# Altium schematic symbol library Sensor_Magnetic.SchLib: 72 symbols
Pins are listed as number, name and electrical type; pins without a type are passive.

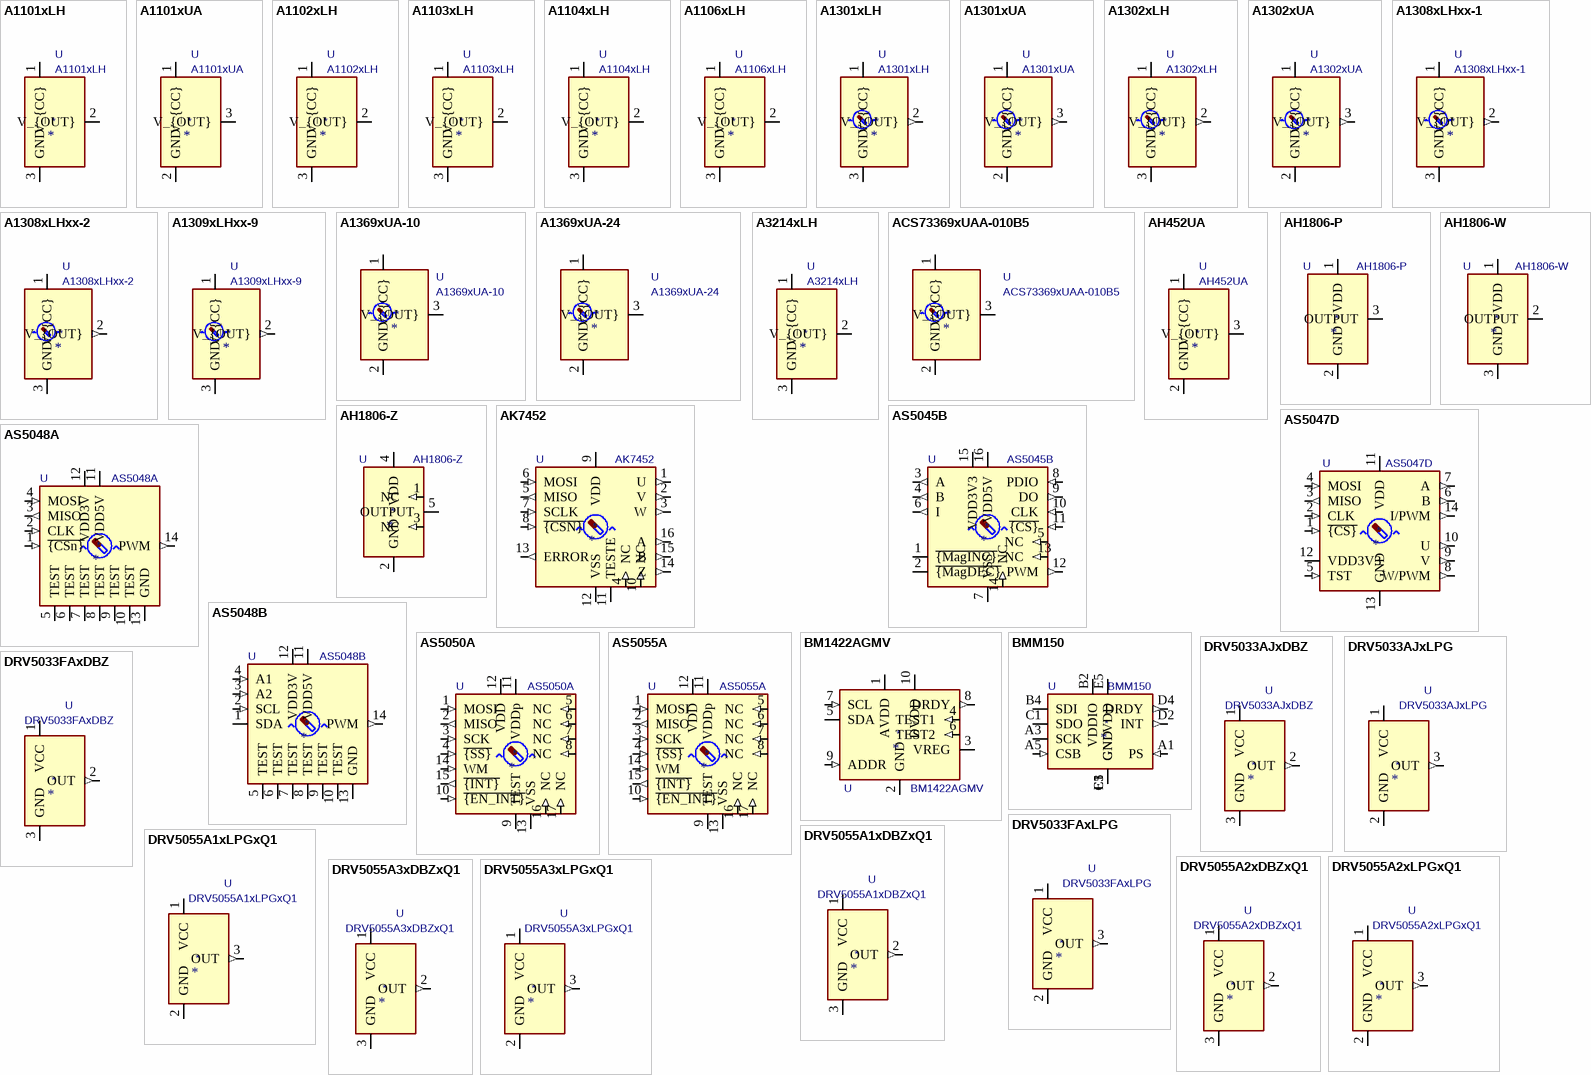
[diagram p0: symbols A1101xLH to DRV5055A3xLPGxQ1]

## A1101xLH
designator *  value A1101xLH  Reference: U
Hall effect switch, unipolar (south-polarity), Bop=100G, Brp=45G, 3.8-24V supply, SOT-23W; ki_keywords: A3141; ki_fp_filters: SOT?23*; Footprint: Package_TO_SOT_SMD:SOT-23W; Datasheet: https://www.allegromicro.com/-/media/files/datasheets/a110x-datasheet.ashx; Description_: Hall effect switch, unipolar (south-polarity), Bop=100G, Brp=45G, 3.8-24V supply, SOT-23W
pins: 1 V_{CC} (power), 2 V_{OUT} (oc), 3 GND (power)

## A1101xUA
designator *  value A1101xUA  Reference: U
Hall effect switch, unipolar (south-polarity), Bop=100G, Brp=45G, 3.8-24V supply, TO-92S (3-pin SIP); ki_keywords: A3141; ki_fp_filters: *TO?92S*; Footprint: Package_TO_SOT_THT:TO-92S; Datasheet: https://www.allegromicro.com/-/media/files/datasheets/a110x-datasheet.ashx; Description_: Hall effect switch, unipolar (south-polarity), Bop=100G, Brp=45G, 3.8-24V supply, TO-92S (3-pin SIP)
pins: 1 V_{CC} (power), 2 GND (power), 3 V_{OUT} (oc)

## A1102xLH
designator *  value A1102xLH  Reference: U
Hall effect switch, unipolar (south-polarity), Bop=180G, Brp=125G, 3.8-24V supply, SOT-23W; ki_keywords: A3142; ki_fp_filters: SOT?23*; Footprint: Package_TO_SOT_SMD:SOT-23W; Datasheet: https://www.allegromicro.com/-/media/files/datasheets/a110x-datasheet.ashx; Description_: Hall effect switch, unipolar (south-polarity), Bop=180G, Brp=125G, 3.8-24V supply, SOT-23W
pins: 1 V_{CC} (power), 2 V_{OUT} (oc), 3 GND (power)

## A1103xLH
designator *  value A1103xLH  Reference: U
Hall effect switch, unipolar (south-polarity), Bop=280G, Brp=225G, 3.8-24V supply, SOT-23W; ki_keywords: A3143; ki_fp_filters: SOT?23*; Footprint: Package_TO_SOT_SMD:SOT-23W; Datasheet: https://www.allegromicro.com/-/media/files/datasheets/a110x-datasheet.ashx; Description_: Hall effect switch, unipolar (south-polarity), Bop=280G, Brp=225G, 3.8-24V supply, SOT-23W
pins: 1 V_{CC} (power), 2 V_{OUT} (oc), 3 GND (power)

## A1104xLH
designator *  value A1104xLH  Reference: U
Hall effect switch, unipolar (south-polarity), Bop=70-350G, Brp=50-330G, 3.8-24V supply, SOT-23W; ki_keywords: A3144; ki_fp_filters: SOT?23*; Footprint: Package_TO_SOT_SMD:SOT-23W; Datasheet: https://www.allegromicro.com/-/media/files/datasheets/a110x-datasheet.ashx; Description_: Hall effect switch, unipolar (south-polarity), Bop=70-350G, Brp=50-330G, 3.8-24V supply, SOT-23W
pins: 1 V_{CC} (power), 2 V_{OUT} (oc), 3 GND (power)

## A1106xLH
designator *  value A1106xLH  Reference: U
Hall effect switch, unipolar (south-polarity), Bop=340G, Brp=240G, 3.8-24V supply, SOT-23W; ki_keywords: Allegro; ki_fp_filters: SOT?23*; Footprint: Package_TO_SOT_SMD:SOT-23W; Datasheet: https://www.allegromicro.com/-/media/files/datasheets/a110x-datasheet.ashx; Description_: Hall effect switch, unipolar (south-polarity), Bop=340G, Brp=240G, 3.8-24V supply, SOT-23W
pins: 1 V_{CC} (power), 2 V_{OUT} (oc), 3 GND (power)

## A1301xLH
designator *  value A1301xLH  Reference: U
Linear Hall Effect Sensor, 2.5 mV/G, 4.5-6.0V supply, SOT-23W; ki_keywords: ratiometric Obsolete; ki_fp_filters: SOT?23W*; Footprint: Package_TO_SOT_SMD:SOT-23W; Datasheet: http://www.allegromicro.com/~/media/Files/Datasheets/A1301-2-Datasheet.ashx; Description_: Linear Hall Effect Sensor, 2.5 mV/G, 4.5-6.0V supply, SOT-23W
pins: 1 V_{CC} (power), 2 V_{OUT} (out), 3 GND (power)

## A1301xUA
designator *  value A1301xUA  Reference: U
Linear Hall Effect Sensor, 2.5 mV/G, 4.5-6.0V supply, TO-92S (3-pin SIP); ki_keywords: ratiometric Obsolete; ki_fp_filters: *TO?92S*; Footprint: Package_TO_SOT_THT:TO-92S; Datasheet: http://www.allegromicro.com/~/media/Files/Datasheets/A1301-2-Datasheet.ashx; Description_: Linear Hall Effect Sensor, 2.5 mV/G, 4.5-6.0V supply, TO-92S (3-pin SIP)
pins: 1 V_{CC} (power), 2 GND (power), 3 V_{OUT} (out)

## A1302xLH
designator *  value A1302xLH  Reference: U
Linear Hall Effect Sensor, 1.3 mV/G, 4.5-6.0V supply, SOT-23W; ki_keywords: ratiometric Obsolete; ki_fp_filters: SOT?23W*; Footprint: Package_TO_SOT_SMD:SOT-23W; Datasheet: http://www.allegromicro.com/~/media/Files/Datasheets/A1301-2-Datasheet.ashx; Description_: Linear Hall Effect Sensor, 1.3 mV/G, 4.5-6.0V supply, SOT-23W
pins: 1 V_{CC} (power), 2 V_{OUT} (out), 3 GND (power)

## A1302xUA
designator *  value A1302xUA  Reference: U
Linear Hall Effect Sensor, 1.3 mV/G, 4.5-6.0V supply, TO-92S (3-pin SIP); ki_keywords: ratiometric Obsolete; ki_fp_filters: *TO?92S*; Footprint: Package_TO_SOT_THT:TO-92S; Datasheet: http://www.allegromicro.com/~/media/Files/Datasheets/A1301-2-Datasheet.ashx; Description_: Linear Hall Effect Sensor, 1.3 mV/G, 4.5-6.0V supply, TO-92S (3-pin SIP)
pins: 1 V_{CC} (power), 2 GND (power), 3 V_{OUT} (out)

## A1308xLHxx-1
designator *  value A1308xLHxx-1  Reference: U
Linear Hall Effect Sensor ICs with Analog Output, 1.3 mV/G, 4.5-5.5V supply, SOT-23W; ki_keywords: ratiometric A1302; ki_fp_filters: SOT?23W*; Footprint: Package_TO_SOT_SMD:SOT-23W; Datasheet: https://www.allegromicro.com/~/media/files/datasheets/a1308-9-datasheet.ashx; Description_: Linear Hall Effect Sensor ICs with Analog Output, 1.3 mV/G, 4.5-5.5V supply, SOT-23W
pins: 1 V_{CC} (power), 2 V_{OUT} (out), 3 GND (power)

## A1308xLHxx-2
designator *  value A1308xLHxx-2  Reference: U
Linear Hall Effect Sensor ICs with Analog Output, 2.5 mV/G, 4.5-5.5V supply, SOT-23W; ki_keywords: ratiometric A1301; ki_fp_filters: SOT?23W*; Footprint: Package_TO_SOT_SMD:SOT-23W; Datasheet: https://www.allegromicro.com/~/media/files/datasheets/a1308-9-datasheet.ashx; Description_: Linear Hall Effect Sensor ICs with Analog Output, 2.5 mV/G, 4.5-5.5V supply, SOT-23W
pins: 1 V_{CC} (power), 2 V_{OUT} (out), 3 GND (power)

## A1309xLHxx-9
designator *  value A1309xLHxx-9  Reference: U
Linear Hall Effect Sensor ICs with Analog Output, 9 mV/G, 4.5-5.5V supply, SOT-23W; ki_keywords: ratiometric; ki_fp_filters: SOT?23W*; Footprint: Package_TO_SOT_SMD:SOT-23W; Datasheet: https://www.allegromicro.com/~/media/files/datasheets/a1308-9-datasheet.ashx; Description_: Linear Hall Effect Sensor ICs with Analog Output, 9 mV/G, 4.5-5.5V supply, SOT-23W
pins: 1 V_{CC} (power), 2 V_{OUT} (out), 3 GND (power)

## A1369xUA-10
designator *  value A1369xUA-10  Reference: U
Customer-Programmable Linear Hall Effect Sensor, -8.5 to -12.5mV/G, TO-92S (3-pin SIP); ki_keywords: current-sensing monitor ratiometric Obsolete; ki_fp_filters: *TO?92S*; Footprint: Package_TO_SOT_THT:TO-92S; Datasheet: http://www.allegromicro.com/~/media/Files/Datasheets/A1369-Datasheet.ashx?la=en; Description_: Customer-Programmable Linear Hall Effect Sensor, -8.5 to -12.5mV/G, TO-92S (3-pin SIP)
pins: 1 V_{CC} (power), 2 GND (power), 3 V_{OUT} (io)

## A1369xUA-24
designator *  value A1369xUA-24  Reference: U
Customer-Programmable Linear Hall Effect Sensor, -22 to -26mV/G, TO-92S (3-pin SIP); ki_keywords: current-sensing monitor ratiometric Obsolete; ki_fp_filters: *TO?92S*; Footprint: Package_TO_SOT_THT:TO-92S; Datasheet: http://www.allegromicro.com/~/media/Files/Datasheets/A1369-Datasheet.ashx?la=en; Description_: Customer-Programmable Linear Hall Effect Sensor, -22 to -26mV/G, TO-92S (3-pin SIP)
pins: 1 V_{CC} (power), 2 GND (power), 3 V_{OUT} (io)

## A3214xLH
designator *  value A3214xLH  Reference: U
Hall Effect Switch, bipolar, Bop = -48 or +42G, Brp = -38 or 32G, 2.4-5.5V supply, SOT-23W; ki_keywords: Allegro; ki_fp_filters: SOT?23W*; Footprint: Package_TO_SOT_SMD:SOT-23W; Datasheet: http://www.allegromicro.com/~/media/Files/Datasheets/A3213-4-Datasheet.ashx; Description_: Hall Effect Switch, bipolar, Bop = -48 or +42G, Brp = -38 or 32G, 2.4-5.5V supply, SOT-23W
pins: 1 V_{CC} (power), 2 V_{OUT} (oc), 3 GND (power)

## ACS73369xUAA-010B5
designator *  value ACS73369xUAA-010B5  Reference: U
Customer-Programmable Linear Hall Effect Sensor, +9 to +13.5mV/G, TO-92S (3-pin SIP); ki_keywords: A1369 current-sensing monitor ratiometric; ki_fp_filters: *TO?92S*; Footprint: Package_TO_SOT_THT:TO-92S; Datasheet: http://www.allegromicro.com/~/media/Files/Datasheets/ACS73369-Datasheet.ashx?la=en; Description_: Customer-Programmable Linear Hall Effect Sensor, +9 to +13.5mV/G, TO-92S (3-pin SIP)
pins: 1 V_{CC} (power), 2 GND (power), 3 V_{OUT} (io)

## AH452UA
designator *  value AH452UA  Reference: U
High sensitivity omnipolar Hall effect switch, Bop=±50G, Brp=±30G, TO-92S (3-pin SIP); ki_keywords: Alfa-Electronics; ki_fp_filters: *TO?92S*; Footprint: Package_TO_SOT_THT:TO-92S; Datasheet: https://datasheet4u.com/pdf-down/A/H/4/AH452-AlfaElectronics.pdf; Description_: High sensitivity omnipolar Hall effect switch, Bop=±50G, Brp=±30G, TO-92S (3-pin SIP)
pins: 1 V_{CC} (power), 2 GND (power), 3 V_{OUT} (oc)

## AH1806-P
designator *  value AH1806-P  Reference: U
High Sensitivity Micropower Omnipolar Hall-Effect Switch, SIP-3; ki_keywords: hall switch; ki_fp_filters: Diodes*SIP*4.1x1.5mm*P1.27mm* Diodes*SIP*4.1x1.5mm*P2.65mm*; Datasheet: https://www.diodes.com/assets/Datasheets/AH1806.pdf; Description_: High Sensitivity Micropower Omnipolar Hall-Effect Switch, SIP-3
pins: 1 VDD (power), 2 GND (power), 3 OUTPUT (oc)

## AH1806-W
designator *  value AH1806-W  Reference: U
High Sensitivity Micropower Omnipolar Hall-Effect Switch, SC-59; ki_keywords: hall switch; ki_fp_filters: SC?59*; Footprint: Package_TO_SOT_SMD:SC-59; Datasheet: https://www.diodes.com/assets/Datasheets/AH1806.pdf; Description_: High Sensitivity Micropower Omnipolar Hall-Effect Switch, SC-59
pins: 1 VDD (power), 2 OUTPUT (oc), 3 GND (power)

## AH1806-Z
designator *  value AH1806-Z  Reference: U
High Sensitivity Micropower Omnipolar Hall-Effect Switch, SOT-553; ki_keywords: hall switch; ki_fp_filters: SOT*553*; Footprint: Package_TO_SOT_SMD:SOT-553; Datasheet: https://www.diodes.com/assets/Datasheets/AH1806.pdf; Description_: High Sensitivity Micropower Omnipolar Hall-Effect Switch, SOT-553
pins: 1 NC (in), 2 GND (power), 3 NC (in), 4 VDD (power), 5 OUTPUT (oc)

## AK7452
designator *  value AK7452  Reference: U
Magnetic rotary angle sensor, 14-bit, SPI interface, ABZ, UVW, TSSOP-16; ki_keywords: sensor magnetic hall position rotation spi; ki_fp_filters: TSSOP*4.4x5mm*P0.65mm*; Footprint: Package_SO:TSSOP-16_4.4x5mm_P0.65mm; Datasheet: https://www.akm.com/akm/en/file/datasheet/AK7452.pdf; Description_: Magnetic rotary angle sensor, 14-bit, SPI interface, ABZ, UVW, TSSOP-16
pins: 1 U (out), 2 V (out), 3 W (out), 4 NC (in), 5 MISO (out), 6 MOSI (in), 7 SCLK (in), 8 ~{{CSN}} (in), 9 VDD (power), 10 NC (in), 11 TESTE, 12 VSS (power), 13 ERROR (out), 14 Z (out), 15 B (out), 16 A (out)

## AS5045B
designator *  value AS5045B  Reference: U
Magnetic Position Sensor, 12-bit, PWM Output, ABI Output, SPI Interface, SSOP-16; ki_keywords: Magnetic Hall Encoder; ki_fp_filters: SSOP*5.3x6.2mm*P0.65mm*; Footprint: Package_SO:SSOP-16_5.3x6.2mm_P0.65mm; Datasheet: https://ams.com/documents/20143/36005/AS5045B_DS000397_2-00.pdf; Description_: Magnetic Position Sensor, 12-bit, PWM Output, ABI Output, SPI Interface, SSOP-16
pins: 1 ~{{MagINC}} (oc), 2 ~{{MagDEC}} (oc), 3 A (out), 4 B (out), 5 NC (in), 6 I (out), 7 VSS (power), 8 PDIO (in), 9 DO (out), 10 CLK (in), 11 ~{{CS}} (in), 12 PWM (out), 13 NC (in), 14 NC (in), 15 VDD3V3 (power), 16 VDD5V (power)

## AS5047D
designator *  value AS5047D  Reference: U
On-Axis Magnetic Position Sensor, 14-bit, PWM Output, ABI Output, UVW Output, SPI Interface, TSSOP-14; ki_keywords: Magnetic Hall Sensor; ki_fp_filters: TSSOP*4.4x5mm*P0.65mm*; Footprint: Package_SO:TSSOP-14_4.4x5mm_P0.65mm; Datasheet: https://ams.com/documents/20143/36005/AS5047D_DS000394_2-00.pdf; Description_: On-Axis Magnetic Position Sensor, 14-bit, PWM Output, ABI Output, UVW Output, SPI Interface, TSSOP-14
pins: 1 ~{{CS}} (in), 2 CLK (in), 3 MISO (out), 4 MOSI (in), 5 TST (in), 6 B (out), 7 A (out), 8 W/PWM (out), 9 V (out), 10 U (out), 11 VDD (power), 12 VDD3V3 (power), 13 GND (power), 14 I/PWM (out)

## AS5048A
designator *  value AS5048A  Reference: U
Magnetic position sensor, 14-bit, PWM output, SPI Interface, TSSOP-14; ki_keywords: sensor magnetic hall position rotation spi; ki_fp_filters: TSSOP*4.4x5mm*P0.65mm*; Footprint: Package_SO:TSSOP-14_4.4x5mm_P0.65mm; Datasheet: https://ams.com/documents/20143/36005/AS5048_DS000298_4-00.pdf; Description_: Magnetic position sensor, 14-bit, PWM output, SPI Interface, TSSOP-14
pins: 1 ~{{CSn}} (in), 2 CLK (in), 3 MISO (out), 4 MOSI (in), 5 TEST, 6 TEST, 7 TEST, 8 TEST, 9 TEST, 10 TEST, 11 VDD5V (power), 12 VDD3V (power), 13 GND (power), 14 PWM (out)

## AS5048B
designator *  value AS5048B  Reference: U
Magnetic position sensor, 14-bit, PWM output, I2C Interface, TSSOP-14; ki_keywords: sensor magnetic hall position rotation i2c; ki_fp_filters: TSSOP*4.4x5mm*P0.65mm*; Footprint: Package_SO:TSSOP-14_4.4x5mm_P0.65mm; Datasheet: https://ams.com/documents/20143/36005/AS5048_DS000298_4-00.pdf; Description_: Magnetic position sensor, 14-bit, PWM output, I2C Interface, TSSOP-14
pins: 1 SDA (io), 2 SCL (in), 3 A2 (in), 4 A1 (in), 5 TEST, 6 TEST, 7 TEST, 8 TEST, 9 TEST, 10 TEST, 11 VDD5V (power), 12 VDD3V (power), 13 GND (power), 14 PWM (out)

## AS5050A
designator *  value AS5050A  Reference: U
Magnetic position sensor, 10-bit, SPI interface, QFN-16; ki_keywords: sensor magnetic hall position rotation spi; ki_fp_filters: QFN*1EP*4x4mm*P0.65mm*PullBack*; Footprint: Package_DFN_QFN:QFN-16-1EP_4x4mm_P0.65mm_EP2.7x2.7mm_PullBack; Datasheet: https://ams.com/documents/20143/36005/AS5055A_DS000304_2-00.pdf; Description_: Magnetic position sensor, 10-bit, SPI interface, QFN-16
pins: 1 MOSI (in), 2 MISO (out), 3 SCK (in), 4 ~{{SS}} (in), 5 NC (in), 6 NC (in), 7 NC (in), 8 NC (in), 9 TEST, 10 ~{{EN_INT}} (in), 11 VDDp (power), 12 VDD (power), 13 VSS (power), 14 WM (in), 15 ~{{INT}} (out), 16 NC (in), 17 NC (in)

## AS5055A
designator *  value AS5055A  Reference: U
Magnetic position sensor, 12-bit, SPI interface, QFN-16; ki_keywords: sensor magnetic hall position rotation spi; ki_fp_filters: QFN*1EP*4x4mm*P0.65mm*PullBack*; Footprint: Package_DFN_QFN:QFN-16-1EP_4x4mm_P0.65mm_EP2.7x2.7mm_PullBack; Datasheet: https://ams.com/documents/20143/36005/AS5055A_DS000304_2-00.pdf; Description_: Magnetic position sensor, 12-bit, SPI interface, QFN-16
pins: 1 MOSI (in), 2 MISO (out), 3 SCK (in), 4 ~{{SS}} (in), 5 NC (in), 6 NC (in), 7 NC (in), 8 NC (in), 9 TEST, 10 ~{{EN_INT}} (in), 11 VDDp (power), 12 VDD (power), 13 VSS (power), 14 WM (in), 15 ~{{INT}} (out), 16 NC (in), 17 NC (in)

## BM1422AGMV
designator *  value BM1422AGMV  Reference: U
Low power 3axis magnetic sensor, I2C interface, MLGA010V020A; ki_keywords: 3D 3axis magnetometer magnetic sensor I2C; ki_fp_filters: *MLGA010V020A*; Footprint: Package_LGA:Rohm_MLGA010V020A_LGA-10_2x2mm_P0.45mm_LayoutBorder2x3y; Datasheet: https://fscdn.rohm.com/en/products/databook/datasheet/ic/sensor/geomagnetic/bm1422agmv-e.pdf; Description_: Low power 3axis magnetic sensor, I2C interface, MLGA010V020A
pins: 1 AVDD (power), 2 GND (power), 3 VREG, 4 TEST1 (in), 5 SDA (io), 6 TEST2 (in), 7 SCL (in), 8 DRDY (out), 9 ADDR (in), 10 DVDD (power)

## BMM150
designator *  value BMM150  Reference: U
Geomagnetic Sensor, WLCSP-12; ki_keywords: BOSH Geomagnetic Sensor; ki_fp_filters: WLCSP*1.56x1.56mm*P0.4mm*; Footprint: Package_CSP:WLCSP-12_1.56x1.56mm_P0.4mm; Datasheet: https://www.mouser.com/datasheet/2/783/BST-BMM150-DS001-01-786480.pdf; Description_: Geomagnetic Sensor, WLCSP-12
pins: A1 PS (in), A3 SCK (io), A5 CSB (in), B2 VDDIO (power), B4 SDI (io), C1 SDO (io), C5 GND (power), D2 INT (out), D4 DRDY (out), E1 GND, E3 GND, E5 VDD (power)

## DRV5033AJxDBZ
designator *  value DRV5033AJxDBZ  Reference: U
±6.9 / ±3.5 mT, 20-kHz, 2-38V, SOT-23; ki_keywords: Digital Omnipolar Switch Hall Effect Sensor; ki_fp_filters: SOT?23*; Footprint: Package_TO_SOT_SMD:SOT-23; Datasheet: https://www.ti.com/lit/ds/symlink/drv5033.pdf; Description_: ±6.9 / ±3.5 mT, 20-kHz, 2-38V, SOT-23
pins: 1 VCC (power), 2 OUT (out), 3 GND (power)

## DRV5033AJxLPG
designator *  value DRV5033AJxLPG  Reference: U
±6.9 / ±3.5 mT, 20-kHz, 2-38V, TO-92; ki_keywords: Digital Omnipolar Switch Hall Effect Sensor; ki_fp_filters: TO?92*; Footprint: Package_TO_SOT_THT:TO-92_Inline; Datasheet: https://www.ti.com/lit/ds/symlink/drv5033.pdf; Description_: ±6.9 / ±3.5 mT, 20-kHz, 2-38V, TO-92
pins: 1 VCC (power), 2 GND (power), 3 OUT (out)

## DRV5033FAxDBZ
designator *  value DRV5033FAxDBZ  Reference: U
±3.5 / ±2 mT, 20-kHz, 2-38V, SOT-23; ki_keywords: Digital Omnipolar Switch Hall Effect Sensor; ki_fp_filters: SOT?23*; Footprint: Package_TO_SOT_SMD:SOT-23; Datasheet: https://www.ti.com/lit/ds/symlink/drv5033.pdf; Description_: ±3.5 / ±2 mT, 20-kHz, 2-38V, SOT-23
pins: 1 VCC (power), 2 OUT (out), 3 GND (power)

## DRV5033FAxLPG
designator *  value DRV5033FAxLPG  Reference: U
±3.5 / ±2 mT, 20-kHz, 2-38V, TO-92; ki_keywords: Digital Omnipolar Switch Hall Effect Sensor; ki_fp_filters: TO?92*; Footprint: Package_TO_SOT_THT:TO-92_Inline; Datasheet: https://www.ti.com/lit/ds/symlink/drv5033.pdf; Description_: ±3.5 / ±2 mT, 20-kHz, 2-38V, TO-92
pins: 1 VCC (power), 2 GND (power), 3 OUT (out)

## DRV5055A1xDBZxQ1
designator *  value DRV5055A1xDBZxQ1  Reference: U
100 mV/mT,±21-mT, 20-kHz, 3.3/5V, SOT-23; ki_keywords: Automotive Ratiometric Linear Hall Effect Sensor AEC-Q100; ki_fp_filters: SOT?23*; Footprint: Package_TO_SOT_SMD:SOT-23; Datasheet: https://www.ti.com/lit/ds/symlink/drv5055-q1.pdf; Description_: 100 mV/mT,±21-mT, 20-kHz, 3.3/5V, SOT-23
pins: 1 VCC (power), 2 OUT (out), 3 GND (power)

## DRV5055A1xLPGxQ1
designator *  value DRV5055A1xLPGxQ1  Reference: U
100 mV/mT,±21-mT, 20-kHz, 3.3/5V, TO-92; ki_keywords: Automotive Ratiometric Linear Hall Effect Sensor AEC-Q100; ki_fp_filters: TO?92*; Footprint: Package_TO_SOT_THT:TO-92_Inline; Datasheet: https://www.ti.com/lit/ds/symlink/drv5055-q1.pdf; Description_: 100 mV/mT,±21-mT, 20-kHz, 3.3/5V, TO-92
pins: 1 VCC (power), 2 GND (power), 3 OUT (out)

## DRV5055A2xDBZxQ1
designator *  value DRV5055A2xDBZxQ1  Reference: U
50 mV/mT,±42-mT, 20-kHz, 3.3/5V, SOT-23; ki_keywords: Automotive Ratiometric Linear Hall Effect Sensor AEC-Q100; ki_fp_filters: SOT?23*; Footprint: Package_TO_SOT_SMD:SOT-23; Datasheet: https://www.ti.com/lit/ds/symlink/drv5055-q1.pdf; Description_: 50 mV/mT,±42-mT, 20-kHz, 3.3/5V, SOT-23
pins: 1 VCC (power), 2 OUT (out), 3 GND (power)

## DRV5055A2xLPGxQ1
designator *  value DRV5055A2xLPGxQ1  Reference: U
50 mV/mT,±42-mT, 20-kHz, 3.3/5V, TO-92; ki_keywords: Automotive Ratiometric Linear Hall Effect Sensor AEC-Q100; ki_fp_filters: TO?92*; Footprint: Package_TO_SOT_THT:TO-92_Inline; Datasheet: https://www.ti.com/lit/ds/symlink/drv5055-q1.pdf; Description_: 50 mV/mT,±42-mT, 20-kHz, 3.3/5V, TO-92
pins: 1 VCC (power), 2 GND (power), 3 OUT (out)

## DRV5055A3xDBZxQ1
designator *  value DRV5055A3xDBZxQ1  Reference: U
25 mV/mT,±85-mT, 20-kHz, 3.3/5V, SOT-23; ki_keywords: Automotive Ratiometric Linear Hall Effect Sensor AEC-Q100; ki_fp_filters: SOT?23*; Footprint: Package_TO_SOT_SMD:SOT-23; Datasheet: https://www.ti.com/lit/ds/symlink/drv5055-q1.pdf; Description_: 25 mV/mT,±85-mT, 20-kHz, 3.3/5V, SOT-23
pins: 1 VCC (power), 2 OUT (out), 3 GND (power)

## DRV5055A3xLPGxQ1
designator *  value DRV5055A3xLPGxQ1  Reference: U
25 mV/mT,±85-mT, 20-kHz, 3.3/5V, TO-92; ki_keywords: Automotive Ratiometric Linear Hall Effect Sensor AEC-Q100; ki_fp_filters: TO?92*; Footprint: Package_TO_SOT_THT:TO-92_Inline; Datasheet: https://www.ti.com/lit/ds/symlink/drv5055-q1.pdf; Description_: 25 mV/mT,±85-mT, 20-kHz, 3.3/5V, TO-92
pins: 1 VCC (power), 2 GND (power), 3 OUT (out)

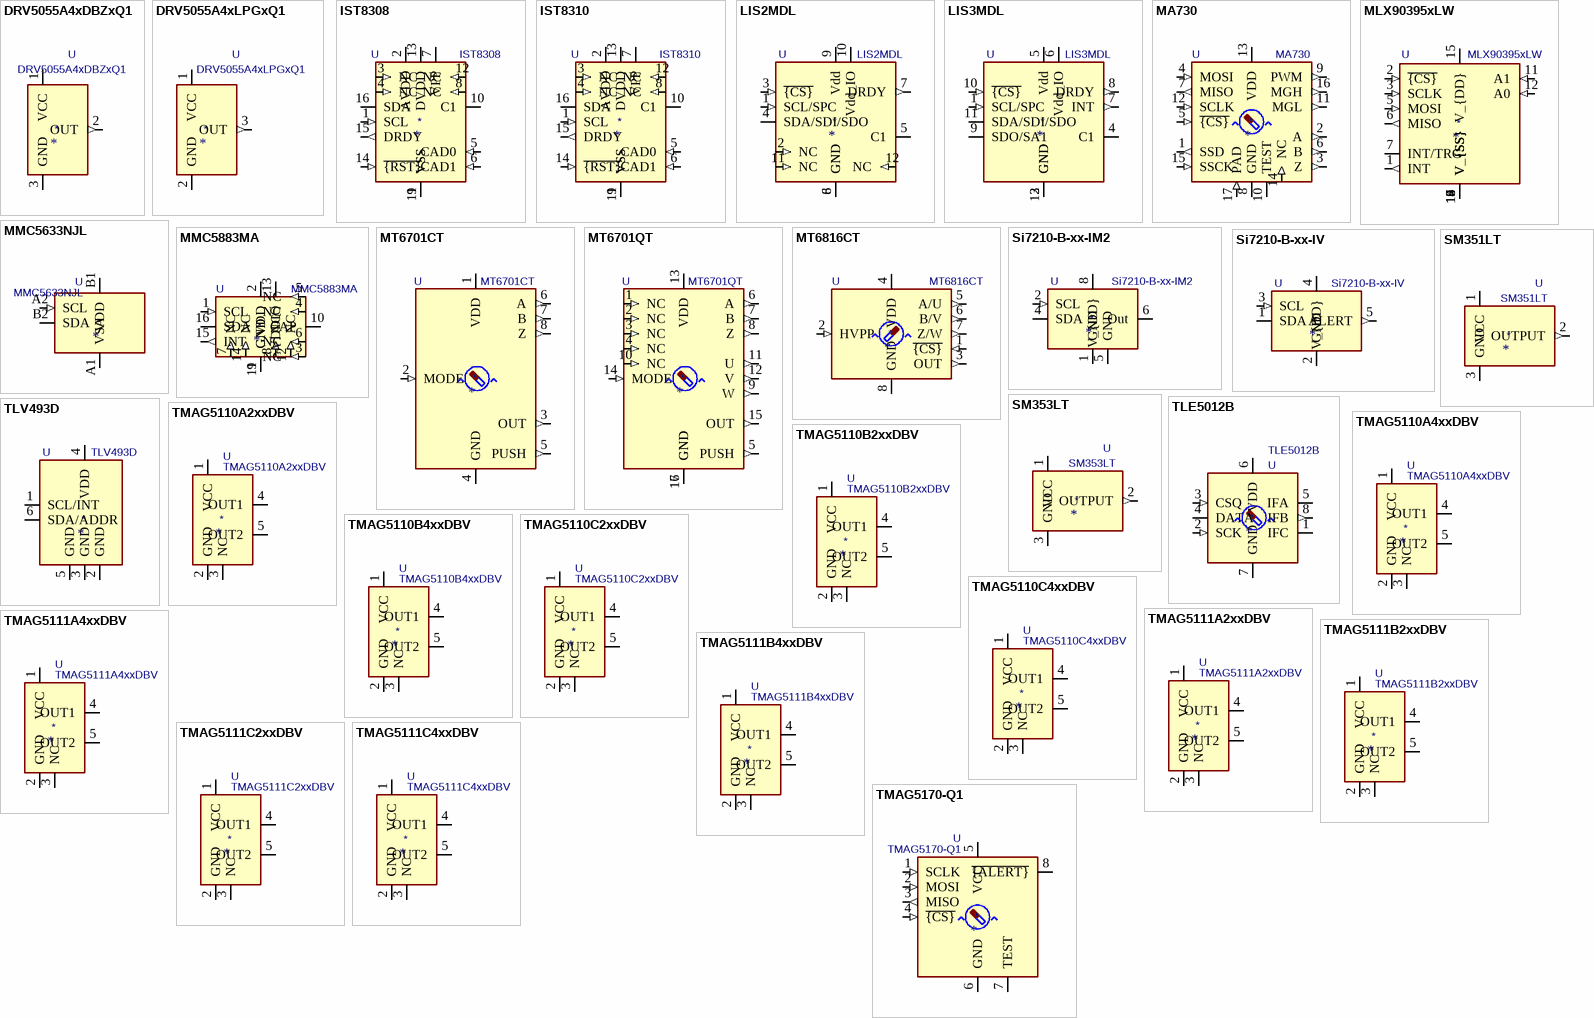
[diagram p1: symbols DRV5055A4xDBZxQ1 to TMAG5170-Q1]

## DRV5055A4xDBZxQ1
designator *  value DRV5055A4xDBZxQ1  Reference: U
12.5 mV/mT,±169-mT, 20-kHz, 3.3/5V, SOT-23; ki_keywords: Automotive Ratiometric Linear Hall Effect Sensor AEC-Q100; ki_fp_filters: SOT?23*; Footprint: Package_TO_SOT_SMD:SOT-23; Datasheet: https://www.ti.com/lit/ds/symlink/drv5055-q1.pdf; Description_: 12.5 mV/mT,±169-mT, 20-kHz, 3.3/5V, SOT-23
pins: 1 VCC (power), 2 OUT (out), 3 GND (power)

## DRV5055A4xLPGxQ1
designator *  value DRV5055A4xLPGxQ1  Reference: U
12.5mV/mT,±169-mT, 20-kHz, 3.3/5V, TO-92; ki_keywords: Automotive Ratiometric Linear Hall Effect Sensor AEC-Q100; ki_fp_filters: TO?92*; Footprint: Package_TO_SOT_THT:TO-92_Inline; Datasheet: https://www.ti.com/lit/ds/symlink/drv5055-q1.pdf; Description_: 12.5mV/mT,±169-mT, 20-kHz, 3.3/5V, TO-92
pins: 1 VCC (power), 2 GND (power), 3 OUT (out)

## IST8308
designator *  value IST8308  Reference: U
3D Magnetometer, High Sensitivity, I2C Interface, LGA-16; ki_keywords: magnet field sensor compass; ki_fp_filters: LGA*3x3mm*P0.5mm*; Footprint: Package_LGA:LGA-16_3x3mm_P0.5mm; Datasheet: http://www.isentek.com/en/dlf.php?file=../ISENTEK/(201703-20)IST8308%20Datasheet%20v1.0_brief.pdf; Description_: 3D Magnetometer, High Sensitivity, I2C Interface, LGA-16
pins: 1 SCL (in), 2 AVDD (power), 3 NC (in), 4 NC (in), 5 CAD0 (in), 6 CAD1 (in), 7 VPP, 8 NC (in), 9 VSS (power), 10 C1, 11 VSS, 12 NC (in), 13 DVDD (power), 14 ~{{RST}} (in), 15 DRDY (out), 16 SDA (io)

## IST8310
designator *  value IST8310  Reference: U
3D Magnetometer, I2C Interface, LGA-16; ki_keywords: magnet field sensor compass; ki_fp_filters: LGA*3x3mm*P0.5mm*; Footprint: Package_LGA:LGA-16_3x3mm_P0.5mm; Datasheet: http://www.isentek.com/en/dlf.php?file=../ISENTEK/(201703-09)IST8310%20Datasheet%20v1.2_brief-105.09.20.pdf; Description_: 3D Magnetometer, I2C Interface, LGA-16
pins: 1 SCL (in), 2 AVDD (power), 3 NC (in), 4 NC (in), 5 CAD0 (in), 6 CAD1 (in), 7 VPP, 8 NC (in), 9 VSS (power), 10 C1, 11 VSS, 12 NC (in), 13 DVDD (power), 14 ~{{RST}} (in), 15 DRDY (out), 16 SDA (io)

## LIS2MDL
designator *  value LIS2MDL  Reference: U
Ultra-low-power, 3-axis digital output magnetometer, LGA-12; ki_keywords: digital magnetometer; ki_fp_filters: LGA*2x2mm*P0.5mm*; Footprint: Package_LGA:LGA-12_2x2mm_P0.5mm; Datasheet: https://www.st.com/resource/en/datasheet/lis2mdl.pdf; Description_: Ultra-low-power, 3-axis digital output magnetometer, LGA-12
pins: 1 SCL/SPC (in), 2 NC (in), 3 ~{{CS}} (in), 4 SDA/SDI/SDO (io), 5 C1 (power), 6 GND (power), 7 DRDY (out), 8 GND, 9 Vdd (power), 10 Vdd_IO (power), 11 NC (in), 12 NC (in)

## LIS3MDL
designator *  value LIS3MDL  Reference: U
Ultra-low-power, 3-axis digital output magnetometer, LGA-12; ki_keywords: digital magnetometer; ki_fp_filters: LGA*2x2mm*P0.5mm*; Footprint: Package_LGA:LGA-12_2x2mm_P0.5mm; Datasheet: https://www.st.com/resource/en/datasheet/lis3mdl.pdf; Description_: Ultra-low-power, 3-axis digital output magnetometer, LGA-12
pins: 1 SCL/SPC (in), 2 GND, 3 GND (power), 4 C1 (power), 5 Vdd (power), 6 Vdd_IO (power), 7 INT (out), 8 DRDY (out), 9 SDO/SA1 (io), 10 ~{{CS}} (in), 11 SDA/SDI/SDO (io), 12 GND

## MA730
designator *  value MA730  Reference: U
Magnetic rotary angle sensor, 14-bit, SPI interface, ABZ, PWM, QFN-16; ki_keywords: sensor magnetic hall position rotation spi; ki_fp_filters: QFN*1EP*3x3mm*P0.5mm*; Footprint: Package_DFN_QFN:QFN-16-1EP_3x3mm_P0.5mm_EP1.75x1.75mm; Datasheet: https://www.monolithicpower.com/pub/media/document/m/a/ma730_r1.01.pdf; Description_: Magnetic rotary angle sensor, 14-bit, SPI interface, ABZ, PWM, QFN-16
pins: 1 SSD (out), 2 A (out), 3 Z (out), 4 MOSI (in), 5 ~{{CS}} (in), 6 B (out), 7 MISO (out), 8 GND (power), 9 PWM (out), 10 TEST, 11 MGL (out), 12 SCLK (in), 13 VDD (power), 14 NC (in), 15 SSCK (in), 16 MGH (out), 17 PAD (in)

## MLX90395xLW
designator *  value MLX90395xLW  Reference: U
3-axis Magnetometer Node, SPI / I2C interface, VQFN-16; ki_keywords: Melexis Triaxis Hall-Sensor; ki_fp_filters: *QFN*3x3mm*P0.5mm*EP1.675x1.675mm*; Footprint: Package_DFN_QFN:QFN-16-1EP_3x3mm_P0.5mm_EP1.675x1.675mm; Datasheet: https://www.melexis.com/en/documents/documentation/datasheets/datasheet-mlx90395; Description_: 3-axis Magnetometer Node, SPI / I2C interface, VQFN-16
pins: 1 INT (out), 2 ~{{CS}} (in), 3 SCLK (in), 4 V_{SS}, 5 MOSI (in), 6 MISO (out), 7 INT/TRG (io), 8 V_{SS}, 9 V_{SS}, 10 V_{SS}, 11 A1 (in), 12 A0 (in), 13 V_{SS} (power), 14 V_{SS}, 15 V_{DD} (power), 16 V_{SS}, 17 V_{SS}

## MMC5633NJL
designator *  value MMC5633NJL  Reference: U
3-axis AMR Magnetometer, 30 G, I2C & I3C  Interface, 2mG RMS, WLP-4; ki_keywords: I2C I3C magnetic 3-axis sensor magnetometer AMR magnetoresistance; ki_fp_filters: WLP*0.86x0.86mm?P0.4mm*; Footprint: Package_BGA:WLP-4_0.86x0.86mm_P0.4mm; Datasheet: http://www.memsic.com/uploadfiles/2020/08/20200827165106864.pdf; Description_: 3-axis AMR Magnetometer, 30 G, I2C & I3C  Interface, 2mG RMS, WLP-4
pins: A1 VSA (power), A2 SCL (in), B1 VDD (power), B2 SDA (io)

## MMC5883MA
designator *  value MMC5883MA  Reference: U
3-axis Magnetic Sensor, I2C Interface, LGA-16; ki_keywords: I2C magnetic 3-axis sensor; ki_fp_filters: *LGA*3x3mm*P0.5mm*; Footprint: Package_LGA:LGA-16_3x3mm_P0.5mm; Datasheet: http://www.memsic.com/userfiles/files/DataSheets/Magnetic-Sensors-Datasheets/MMC5883MA-RevC.pdf; Description_: 3-axis Magnetic Sensor, I2C Interface, LGA-16
pins: 1 SCL (in), 2 VDD (power), 3 NC (in), 4 NC (in), 5 NC (in), 6 NC (in), 7 NC (in), 8 NC (in), 9 GND (power), 10 CAP, 11 GND, 12 NC (in), 13 VDDIO (power), 14 NC (in), 15 INT (out), 16 SDA (io)

## MT6701CT
designator *  value MT6701CT  Reference: U
Hall Based Angle Position Encoder Sensor, I2C, SSI, ABZ & UVW interfaces, 3.3..5V supply, SOIC-8; ki_keywords: sensor magnetic hall rotation; ki_fp_filters: SO*3.9x4.9mm*P1.27mm*; Footprint: Package_SO:SO-8_3.9x4.9mm_P1.27mm; Datasheet: https://www.magntek.com.cn/upload/MT6701_Rev.1.5.pdf; Description_: Hall Based Angle Position Encoder Sensor, I2C, SSI, ABZ & UVW interfaces, 3.3..5V supply, SOIC-8
pins: 1 VDD (power), 2 MODE (in), 3 OUT (out), 4 GND (power), 5 PUSH (out), 6 A (out), 7 B (out), 8 Z (out)

## MT6701QT
designator *  value MT6701QT  Reference: U
Hall Based Angle Position Encoder Sensor, I2C, SSI, ABZ & UVW interfaces, 3.3..5V supply, QFN-16; ki_keywords: sensor magnetic hall rotation; ki_fp_filters: QFN*1EP*3x3mm*P0.5mm*; Footprint: Package_DFN_QFN:QFN-16-1EP_3x3mm_P0.5mm_EP1.7x1.7mm; Datasheet: https://www.magntek.com.cn/upload/MT6701_Rev.1.5.pdf; Description_: Hall Based Angle Position Encoder Sensor, I2C, SSI, ABZ & UVW interfaces, 3.3..5V supply, QFN-16
pins: 1 NC (in), 2 NC (in), 3 NC (in), 4 NC (in), 5 PUSH (out), 6 A (out), 7 B (out), 8 Z (out), 9 W (out), 10 NC (in), 11 U (out), 12 V (out), 13 VDD (power), 14 MODE (in), 15 OUT (out), 16 GND (power), 17 GND

## MT6816CT
designator *  value MT6816CT  Reference: U
High Speed & High Resolution Magnetic Angle Sensor IC, SOIC-8; ki_keywords: ABZ UVW SPI 14bit AMR Incremental Absolute Position Encoder; ki_fp_filters: SO*3.9x4.9mm*P1.27mm*; Footprint: Package_SO:SO-8_3.9x4.9mm_P1.27mm; Datasheet: http://www.magntek.com.cn/upload/MT6816_Rev.2.0.pdf; Description_: High Speed & High Resolution Magnetic Angle Sensor IC, SOIC-8
pins: 1 ~{{CS}} (in), 2 HVPP (in), 3 OUT (out), 4 VDD (power), 5 A/U (out), 6 B/V (out), 7 Z/W (out), 8 GND (power)

## Si7210-B-xx-IM2
designator *  value Si7210-B-xx-IM2  Reference: U
I2C Hall Effect Magnetic Position and Temperature Sensor, TDFN-8; ki_keywords: I2C hall effect magnetic postition temperature sensor; ki_fp_filters: TDFN-8*1.4x1.6mm*P0.4mm*; Footprint: Package_DFN_QFN:TDFN-8_1.4x1.6mm_P0.4mm; Datasheet: https://www.silabs.com/documents/public/data-sheets/si7210-datasheet.pdf; Description_: I2C Hall Effect Magnetic Position and Temperature Sensor, TDFN-8
pins: 1 GND (power), 2 SCL (in), 4 SDA (io), 5 GND (power), 6 Out (io), 8 V_{DD} (power)

## Si7210-B-xx-IV
designator *  value Si7210-B-xx-IV  Reference: U
I2C Hall Effect Magnetic Position and Temperature Sensor, SOT-23-5; ki_keywords: I2C hall effect magnetic postition temperature sensor; ki_fp_filters: SOT-23-5*; Footprint: Package_TO_SOT_SMD:SOT-23-5; Datasheet: https://www.silabs.com/documents/public/data-sheets/si7210-datasheet.pdf; Description_: I2C Hall Effect Magnetic Position and Temperature Sensor, SOT-23-5
pins: 1 SDA (io), 2 GND (power), 3 SCL (in), 4 V_{DD} (power), 5 ALERT (out)

## SM351LT
designator *  value SM351LT  Reference: U
Hall Effect Switch, SOT-23; ki_keywords: Hall Effect Switch Sensor; ki_fp_filters: SOT?23*; Footprint: Package_TO_SOT_SMD:SOT-23; Datasheet: https://sensing.honeywell.com/honeywell-sensing-nanopower-series-product-sheet-50095501-a-en.pdf; Description_: Hall Effect Switch, SOT-23
pins: 1 VCC (power), 2 OUTPUT (out), 3 GND (power)

## SM353LT
designator *  value SM353LT  Reference: U
Hall Effect Switch, SOT-23; ki_keywords: Hall Effect Switch Sensor; ki_fp_filters: SOT?23*; Footprint: Package_TO_SOT_SMD:SOT-23; Datasheet: https://sensing.honeywell.com/honeywell-sensing-nanopower-series-product-sheet-50095501-a-en.pdf; Description_: Hall Effect Switch, SOT-23
pins: 1 VCC (power), 2 OUTPUT (out), 3 GND (power)

## TLE5012B
designator *  value TLE5012B  Reference: U
15bit magnetic angle sensor based on GMR principle with diagnostic functions, SOIC-8; ki_keywords: Infineon GMR Angle Position Rotation SPI SSC PWM IIF SPC SENT HSM BIST AEC; ki_fp_filters: SOIC*3.9x4.9mm*P1.27mm*; Footprint: Package_SO:SOIC-8_3.9x4.9mm_P1.27mm; Datasheet: https://www.infineon.com/dgdl/Infineon-TLE5012B_Exxxx-DataSheet-v02_01-EN.pdf?fileId=db3a304334fac4c601350f31c43c433f; Description_: 15bit magnetic angle sensor based on GMR principle with diagnostic functions, SOIC-8
pins: 1 IFC (io), 2 SCK (in), 3 CSQ (in), 4 DATA (io), 5 IFA (io), 6 VDD (power), 7 GND (power), 8 IFB (out)

## TLV493D
designator *  value TLV493D  Reference: U
Low power 3D magnetic sensor, I2C interface, SOT-23-6; ki_keywords: magnetic field i2c; ki_fp_filters: SOT?23*; Footprint: Package_TO_SOT_SMD:SOT-23-6; Datasheet: http://www.infineon.com/dgdl/Infineon-TLV493D-A1B6-DS-v01_00-EN.pdf?fileId=5546d462525dbac40152a6b85c760e80; Description_: Low power 3D magnetic sensor, I2C interface, SOT-23-6
pins: 1 SCL/INT (io), 2 GND (power), 3 GND (power), 4 VDD (power), 5 GND (power), 6 SDA/ADDR (io)

## TMAG5110A2xxDBV
designator *  value TMAG5110A2xxDBV  Reference: U
2-dimensional, dual channel, Hall effect latch, XY, 1.4 mT, SOT-23-5; ki_keywords: hall switch; ki_fp_filters: SOT?23*; Footprint: Package_TO_SOT_SMD:SOT-23-5; Datasheet: https://www.ti.com/lit/ds/symlink/tmag5110.pdf; Description_: 2-dimensional, dual channel, Hall effect latch, XY, 1.4 mT, SOT-23-5
pins: 1 VCC (power), 2 GND (power), 3 NC, 4 OUT1 (oc), 5 OUT2 (oc)

## TMAG5110A4xxDBV
designator *  value TMAG5110A4xxDBV  Reference: U
2-dimensional, dual channel, Hall effect latch, XY, 3 mT, SOT-23-5; ki_keywords: hall switch; ki_fp_filters: SOT?23*; Footprint: Package_TO_SOT_SMD:SOT-23-5; Datasheet: https://www.ti.com/lit/ds/symlink/tmag5110.pdf; Description_: 2-dimensional, dual channel, Hall effect latch, XY, 3 mT, SOT-23-5
pins: 1 VCC (power), 2 GND (power), 3 NC, 4 OUT1 (oc), 5 OUT2 (oc)

## TMAG5110B2xxDBV
designator *  value TMAG5110B2xxDBV  Reference: U
2-dimensional, dual channel, Hall effect latch, ZX, 1.4 mT, SOT-23-5; ki_keywords: hall switch; ki_fp_filters: SOT?23*; Footprint: Package_TO_SOT_SMD:SOT-23-5; Datasheet: https://www.ti.com/lit/ds/symlink/tmag5110.pdf; Description_: 2-dimensional, dual channel, Hall effect latch, ZX, 1.4 mT, SOT-23-5
pins: 1 VCC (power), 2 GND (power), 3 NC, 4 OUT1 (oc), 5 OUT2 (oc)

## TMAG5110B4xxDBV
designator *  value TMAG5110B4xxDBV  Reference: U
2-dimensional, dual channel, Hall effect latch, ZX, 3 mT, SOT-23-5; ki_keywords: hall switch; ki_fp_filters: SOT?23*; Footprint: Package_TO_SOT_SMD:SOT-23-5; Datasheet: https://www.ti.com/lit/ds/symlink/tmag5110.pdf; Description_: 2-dimensional, dual channel, Hall effect latch, ZX, 3 mT, SOT-23-5
pins: 1 VCC (power), 2 GND (power), 3 NC, 4 OUT1 (oc), 5 OUT2 (oc)

## TMAG5110C2xxDBV
designator *  value TMAG5110C2xxDBV  Reference: U
2-dimensional, dual channel, Hall effect latch, ZY, 1.4 mT, SOT-23-5; ki_keywords: hall switch; ki_fp_filters: SOT?23*; Footprint: Package_TO_SOT_SMD:SOT-23-5; Datasheet: https://www.ti.com/lit/ds/symlink/tmag5110.pdf; Description_: 2-dimensional, dual channel, Hall effect latch, ZY, 1.4 mT, SOT-23-5
pins: 1 VCC (power), 2 GND (power), 3 NC, 4 OUT1 (oc), 5 OUT2 (oc)

## TMAG5110C4xxDBV
designator *  value TMAG5110C4xxDBV  Reference: U
2-dimensional, dual channel, Hall effect latch, ZY, 3  mT, SOT-23-5; ki_keywords: hall switch; ki_fp_filters: SOT?23*; Footprint: Package_TO_SOT_SMD:SOT-23-5; Datasheet: https://www.ti.com/lit/ds/symlink/tmag5110.pdf; Description_: 2-dimensional, dual channel, Hall effect latch, ZY, 3  mT, SOT-23-5
pins: 1 VCC (power), 2 GND (power), 3 NC, 4 OUT1 (oc), 5 OUT2 (oc)

## TMAG5111A2xxDBV
designator *  value TMAG5111A2xxDBV  Reference: U
2-dimensional, dual channel, speed & dir output, Hall effect latch, XY, 1.4 mT, SOT-23-5; ki_keywords: hall switch; ki_fp_filters: SOT?23*; Footprint: Package_TO_SOT_SMD:SOT-23-5; Datasheet: https://www.ti.com/lit/ds/symlink/tmag5111.pdf; Description_: 2-dimensional, dual channel, speed & dir output, Hall effect latch, XY, 1.4 mT, SOT-23-5
pins: 1 VCC (power), 2 GND (power), 3 NC, 4 OUT1 (oc), 5 OUT2 (oc)

## TMAG5111A4xxDBV
designator *  value TMAG5111A4xxDBV  Reference: U
2-dimensional, dual channel, speed & dir output, Hall effect latch, XY, 3 mT, SOT-23-5; ki_keywords: hall switch; ki_fp_filters: SOT?23*; Footprint: Package_TO_SOT_SMD:SOT-23-5; Datasheet: https://www.ti.com/lit/ds/symlink/tmag5111.pdf; Description_: 2-dimensional, dual channel, speed & dir output, Hall effect latch, XY, 3 mT, SOT-23-5
pins: 1 VCC (power), 2 GND (power), 3 NC, 4 OUT1 (oc), 5 OUT2 (oc)

## TMAG5111B2xxDBV
designator *  value TMAG5111B2xxDBV  Reference: U
2-dimensional, dual channel, speed & dir output, Hall effect latch, ZX, 1.4 mT, SOT-23-5; ki_keywords: hall switch; ki_fp_filters: SOT?23*; Footprint: Package_TO_SOT_SMD:SOT-23-5; Datasheet: https://www.ti.com/lit/ds/symlink/tmag5111.pdf; Description_: 2-dimensional, dual channel, speed & dir output, Hall effect latch, ZX, 1.4 mT, SOT-23-5
pins: 1 VCC (power), 2 GND (power), 3 NC, 4 OUT1 (oc), 5 OUT2 (oc)

## TMAG5111B4xxDBV
designator *  value TMAG5111B4xxDBV  Reference: U
2-dimensional, dual channel, speed & dir output, Hall effect latch, ZX, 3 mT, SOT-23-5; ki_keywords: hall switch; ki_fp_filters: SOT?23*; Footprint: Package_TO_SOT_SMD:SOT-23-5; Datasheet: https://www.ti.com/lit/ds/symlink/tmag5111.pdf; Description_: 2-dimensional, dual channel, speed & dir output, Hall effect latch, ZX, 3 mT, SOT-23-5
pins: 1 VCC (power), 2 GND (power), 3 NC, 4 OUT1 (oc), 5 OUT2 (oc)

## TMAG5111C2xxDBV
designator *  value TMAG5111C2xxDBV  Reference: U
2-dimensional, dual channel, speed & dir output, Hall effect latch, ZY, 1.4 mT, SOT-23-5; ki_keywords: hall switch; ki_fp_filters: SOT?23*; Footprint: Package_TO_SOT_SMD:SOT-23-5; Datasheet: https://www.ti.com/lit/ds/symlink/tmag5111.pdf; Description_: 2-dimensional, dual channel, speed & dir output, Hall effect latch, ZY, 1.4 mT, SOT-23-5
pins: 1 VCC (power), 2 GND (power), 3 NC, 4 OUT1 (oc), 5 OUT2 (oc)

## TMAG5111C4xxDBV
designator *  value TMAG5111C4xxDBV  Reference: U
2-dimensional, dual channel, speed & dir output, Hall effect latch, ZY, 3  mT, SOT-23-5; ki_keywords: hall switch; ki_fp_filters: SOT?23*; Footprint: Package_TO_SOT_SMD:SOT-23-5; Datasheet: https://www.ti.com/lit/ds/symlink/tmag5111.pdf; Description_: 2-dimensional, dual channel, speed & dir output, Hall effect latch, ZY, 3  mT, SOT-23-5
pins: 1 VCC (power), 2 GND (power), 3 NC, 4 OUT1 (oc), 5 OUT2 (oc)

## TMAG5170-Q1
designator *  value TMAG5170-Q1  Reference: U
Magnetic 3-axis linear sensor, 12-bit, Automotive, SPI Interface, VSSOP-8; ki_keywords: sensor magnetic hall position rotation spi; ki_fp_filters: VSSOP*3x3mm*P0.65mm*; Footprint: Package_SO:VSSOP-8_3x3mm_P0.65mm; Datasheet: https://www.ti.com/lit/ds/symlink/tmag5170-q1.pdf; Description_: Magnetic 3-axis linear sensor, 12-bit, Automotive, SPI Interface, VSSOP-8
pins: 1 SCLK (in), 2 MOSI (in), 3 MISO (out), 4 ~{{CS}} (in), 5 VCC (power), 6 GND (power), 7 TEST, 8 ~{{ALERT}} (io)